# Altium footprint library clusterlib.PcbLib: 14 footprints
Each footprint in its own frame and in the unit in brackets; x right, y up, seen from the top. Pads: shape width x height; smd on the part's side, far side on the other; paste and mask are expansions set on the pad; w line width, h text height; cw(c..) or ccw(c..) is an arc to the next point about the centre after c.
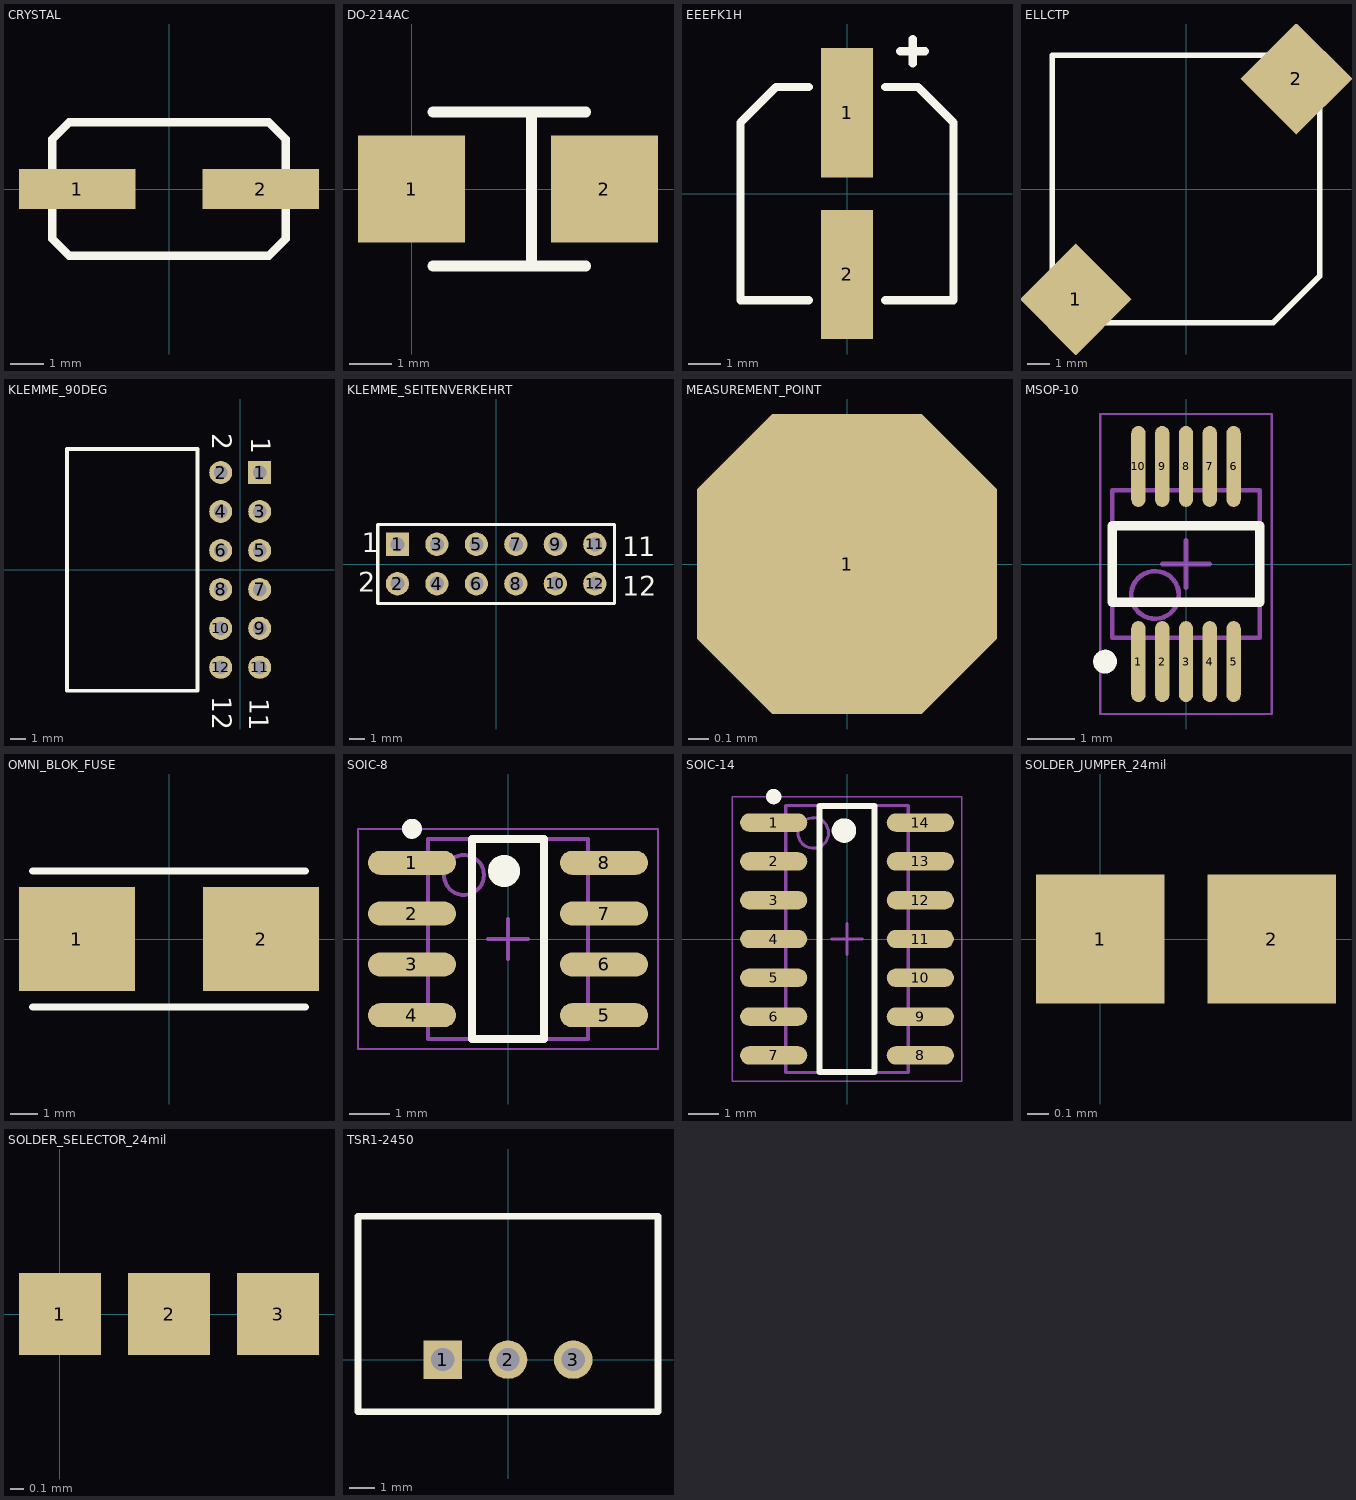
[diagram p0: the footprints below, top view; thin cyan lines are the x and y axes]

## CRYSTAL [mm] "ABLS7M2, http://www.farnell.com/datasheets/1883657.pdf"
height 2
pads (2):
  rect 3.5x1.2 smd: 1(-2.75,0) 2(2.75,0)
Top Overlay:
  lines w0.254: -3.5,-1.5 -3,-2 3,-2 3.5,-1.5 3.5,1.5 3,2 -3,2 -3.5,1.5 -3.5,-1.5
3D body: height 2, standoff 0, extent -3,-1.5 3,1.5
3D body: height 0.5, standoff 0, extent -3.5,-2 3.5,2

## DO-214AC [mm] "Diode Package"
pads (2):
  rect 2.5x2.5 smd: 1(0,0) 2(4.5,0)
Top Overlay:
  lines w0.254: 0.5,-1.8 4.064,-1.8 ; 0.5,1.8 4.064,1.8 ; 2.796,-1.8 2.796,1.8
3D body: height 2.6, standoff 0.1, extent 0.5,-1.25 4.05,1.25

## EEEFK1H [mm] "Elko SMD Becher"
pads (2):
  rect 1.6x4 smd: 1(0,2.5) 2(0,-2.5)
Top Overlay:
  lines w0.254: -1.185,-3.3 -3.3,-3.3 -3.3,2.2 -2.2,3.3 -1.181,3.3 ; 1.181,3.3 2.2,3.3 3.3,2.2 3.3,-3.3 1.185,-3.3 ; 1.651,4.405 2.413,4.405 ; 2.032,4.024 2.032,4.786
3D body: height 4.6, standoff 0, extent -3.147,-3.15 3.147,3.15

## ELLCTP [mm] "Inductor"
pads (2):
  rect 3.6x3.6 smd rot 45: 1(-5.02,-5.02) 2(5.02,5.02)
Top Overlay:
  lines w0.254: -6.081,-3.96 -3.96,-6.081 3.96,-6.081 6.081,-3.96 6.081,3.96 3.96,6.081 -6.081,6.081 -6.081,-3.96
3D body: height 4.4, standoff 0.1, extent -6.081,-6.081 6.081,6.081

## KLEMME_90DEG [mm]
pads (12):
  rect 1.5x1.5 hole 0.9: 1(1.27,6.35)
  round 1.5 hole 0.9: 2(-1.27,6.35) 3(1.27,3.81) 4(-1.27,3.81) 5(1.27,1.27) 6(-1.27,1.27) 7(1.27,-1.27) 8(-1.27,-1.27) 9(1.27,-3.81) 10(-1.27,-3.81) 11(1.27,-6.35) 12(-1.27,-6.35)
Top Overlay:
  lines w0.254: -11.303,-7.874 -2.794,-7.874 -2.794,7.874 -11.303,7.874 -11.303,-7.874
  text "2" at -1.82,8.895 h1.27
  text "1" at 0.72,8.641 h1.27
  text "1" at 0.635,-8.382 h1.27
  text "1" at 0.593,-9.393 h1.27
  text "12" at -1.82,-8.25 h1.27

## KLEMME_SEITENVERKEHRT [mm] "5x2 Klemme (seitenverkehrt)"
pads (12):
  rect 1.5x1.5 hole 0.9: 1(-6.35,1.27)
  round 1.5 hole 0.9: 2(-6.35,-1.27) 3(-3.81,1.27) 4(-3.81,-1.27) 5(-1.27,1.27) 6(-1.27,-1.27) 7(1.27,1.27) 8(1.27,-1.27) 9(3.81,1.27) 10(3.81,-1.27) 11(6.35,1.27) 12(6.35,-1.27)
Top Overlay:
  lines w0.2: -7.62,-2.54 -7.62,2.54 7.62,2.54 7.62,-2.54 -7.62,-2.54
  text "2" at -8.89,-1.778 h1.27
  text "1" at -8.636,0.762 h1.27
  text "1" at 8.128,0.508 h1.27
  text "1" at 9.144,0.508 h1.27
  text "12" at 8.128,-2.032 h1.27

## MEASUREMENT_POINT [mm] "SMD measurement point"
pads (1):
  oct 1.5x1.5 smd: 1(0,0)

## MSOP-10 [mm] "Mini Small-Outline Package 10pin"
pads (10):
  oval 0.3x1.7 smd: 1(-1,-2.05) 2(-0.5,-2.05) 3(0,-2.05) 4(0.5,-2.05) 5(1,-2.05) 6(1,2.05) 7(0.5,2.05) 8(0,2.05) 9(-0.5,2.05) 10(-1,2.05)
Top Overlay:
  circle w0.25: c-1.7,-2.05 r0.125
  lines w0.2: -1.55,-0.8 1.55,-0.8 1.55,0.8 -1.55,0.8 -1.55,-0.8
Mechanical 13:
  circle w0.1: c-0.65,-0.65 r0.5
  lines w0.1: -1.55,-1.55 1.55,-1.55 1.55,1.55 -1.55,1.55 -1.55,-1.55
Mechanical 15:
  lines w0.05: -1.8,-3.15 1.8,-3.15 1.8,3.15 -1.8,3.15 -1.8,-3.15
  lines w0.1: -0.5,0 0.5,0 ; 0,-0.5 0,0.5
3D body: height 1.09, standoff 0.06, extent -1.55,-1.55 1.55,1.55

## OMNI_BLOK_FUSE [mm]
pads (2):
  rect 4.25x3.8 smd: 1(-3.375,0) 2(3.375,0)
Top Overlay:
  lines w0.254: -5,-2.5 5,-2.5 ; -5,2.5 5,2.5
3D body: height 4, standoff 0, extent -5,-2.5 5,2.5

## SOIC-8 [mm] "Small Outline Integrated Circuit 8pin Package"
pads (8):
  oval 2.2x0.6 smd: 1(-2.4,1.905) 2(-2.4,0.635) 3(-2.4,-0.635) 4(-2.4,-1.905) 5(2.4,-1.905) 6(2.4,-0.635) 7(2.4,0.635) 8(2.4,1.905)
Top Overlay:
  circle w0.4: c-0.1,1.7 r0.2
  circle w0.25: c-2.4,2.755 r0.125
  lines w0.2: -0.9,-2.5 0.9,-2.5 0.9,2.5 -0.9,2.5 -0.9,-2.5
Mechanical 13:
  circle w0.1: c-1.1,1.6 r0.5
  lines w0.1: -2,-2.5 2,-2.5 2,2.5 -2,2.5 -2,-2.5
Mechanical 15:
  lines w0.05: -3.75,-2.75 3.75,-2.75 3.75,2.75 -3.75,2.75 -3.75,-2.75
  lines w0.1: -0.5,0 0.5,0 ; 0,-0.5 0,0.5
3D body: height 1.75, standoff 0.1, extent -2,-2.5 2,2.5

## SOIC-14 [mm] "Small Outline Integrated Circuit 14pin Package"
pads (14):
  oval 2.2x0.6 smd: 1(-2.4,3.81) 2(-2.4,2.54) 3(-2.4,1.27) 4(-2.4,0) 5(-2.4,-1.27) 6(-2.4,-2.54) 7(-2.4,-3.81) 8(2.4,-3.81) 9(2.4,-2.54) 10(2.4,-1.27) 11(2.4,0) 12(2.4,1.27) 13(2.4,2.54) 14(2.4,3.81)
Top Overlay:
  circle w0.25: c-2.4,4.66 r0.125
  circle w0.4: c-0.1,3.55 r0.2
  lines w0.2: -0.9,-4.35 -0.9,4.35 0.9,4.35 0.9,-4.35 -0.9,-4.35
Mechanical 13:
  circle w0.1: c-1.105,3.47 r0.5
  lines w0.1: -2.005,-4.37 -2.005,4.37 2.005,4.37 2.005,-4.37 -2.005,-4.37
Mechanical 15:
  lines w0.05: -3.75,-4.65 -3.75,4.65 3.75,4.65 3.75,-4.65 -3.75,-4.65
  lines w0.1: -0.5,0 0.5,0 ; 0,-0.5 0,0.5
3D body: height 1.75, standoff 0.1, extent -2.005,-4.37 2.005,4.37

## SOLDER_JUMPER_24mil [mil] "Solder Jumber for 24mil traces, 8mil gap"
pads (2):
  rect 24x24 smd: 1(0,0) 2(32,0)

## SOLDER_SELECTOR_24mil [mil] "Solder Selector for 24mil traces, 8mil gap"
pads (3):
  rect 24x24 smd: 1(0,0) 2(32,0) 3(64,0)

## TSR1-2450 [mm] "TSR1-2450 Footprint (Drop in for TO220)"
pads (3):
  rect 1.5x1.5 hole 0.9: 1(-2.54,0)
  round 1.5 hole 0.9: 2(0,0) 3(2.54,0)
Top Overlay:
  lines w0.254: -5.842,-2.032 5.842,-2.032 5.842,5.588 -5.842,5.588 -5.842,-2.032
3D body: height 10.2, standoff 0, extent -5.842,-2.032 5.842,5.588